# Altium footprint library USB_C-918-418K2023C40004.PcbLib: 1 footprints
Each footprint in its own frame and in the unit in brackets; x right, y up, seen from the top. Pads: shape width x height; smd on the part's side, far side on the other; paste and mask are expansions set on the pad; w line width, h text height; cw(c..) or ccw(c..) is an arc to the next point about the centre after c.
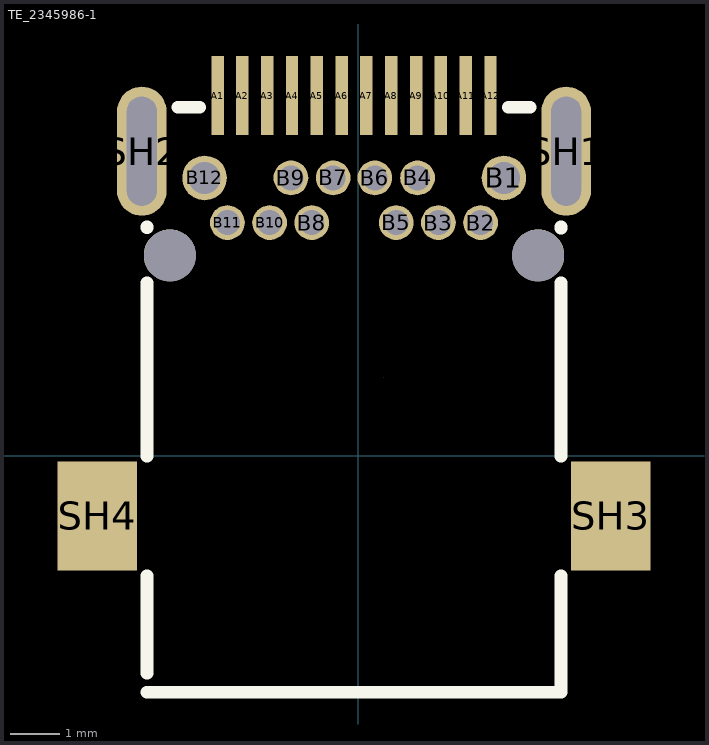
[diagram p0: the footprint, top view; thin cyan lines are the x and y axes]

## TE_2345986-1 [mm]
height 3.16
pads (30):
  rect 0.25x1.6 smd paste-100 mask+0.051: A1(-2.836,7.259) A2(-2.336,7.259) A3(-1.837,7.259) A4(-1.337,7.259) A5(-0.837,7.259) A6(-0.337,7.259) A7(0.163,7.259) A8(0.663,7.259) A9(1.162,7.259) A10(1.662,7.259) A11(2.162,7.259) A12(2.662,7.259)
  round 0.9 hole 0.65 paste-2539.97 mask+0.051: B1(2.932,5.599) B12(-3.098,5.599)
  round 0.7 hole 0.5 paste-2539.97 mask+0.051: B2(2.462,4.699) B3(1.612,4.699) B4(1.192,5.599) B5(0.762,4.699) B6(0.332,5.599) B7(-0.508,5.599) B8(-0.938,4.699) B9(-1.358,5.599) B10(-1.788,4.699) B11(-2.638,4.699)
  oval 1x2.6 hole 0.6 slot 2.2 at 90 deg paste-2539.97 mask+0.051: SH1(4.187,6.139) SH2(-4.363,6.139)
  rect 1.6x2.2 smd paste-100 mask+0.051: SH3(5.087,-1.211) SH4(-5.263,-1.211)
  round 1.05 hole 1.05 unplated paste-2539.97: ""(-3.798,4.039) ""(3.622,4.039)
Top Overlay:
  lines w0.254: -4.258,-4.761 4.082,-4.761 4.082,-2.415 ; -4.258,-4.382 -4.258,-2.415 ; -4.258,-0.008 -4.258,3.491 ; -4.258,4.592 -4.258,4.615 ; -3.637,7.024 -3.192,7.024 ; 3.018,7.024 3.461,7.024 ; 4.082,-0.008 4.082,3.486 ; 4.082,4.587 4.082,4.615
Top Paste:
  circle w0.28: c2.932,5.599 r0.14
  circle w0.28: c2.462,4.699 r0.14
  circle w0.28: c1.612,4.699 r0.14
  circle w0.28: c1.192,5.599 r0.14
  circle w0.28: c0.762,4.699 r0.14
  circle w0.28: c0.332,5.599 r0.14
  circle w0.28: c-0.508,5.599 r0.14
  circle w0.28: c-0.938,4.699 r0.14
  circle w0.28: c-1.358,5.599 r0.14
  circle w0.28: c-1.788,4.699 r0.14
  circle w0.28: c-2.638,4.699 r0.14
  circle w0.36: c-3.098,5.599 r0.18
  region: -4.463,-2.311 -6.063,-2.311 -6.063,-0.111 -4.463,-0.111
  region: 4.287,-0.111 5.887,-0.111 5.887,-2.311 4.287,-2.311
  region: -2.961,8.059 -2.711,8.059 -2.711,6.459 -2.961,6.459
  region: -2.461,8.059 -2.212,8.059 -2.212,6.459 -2.461,6.459
  region: -1.962,8.059 -1.712,8.059 -1.712,6.459 -1.962,6.459
  region: -1.462,8.059 -1.212,8.059 -1.212,6.459 -1.462,6.459
  region: -0.962,8.059 -0.712,8.059 -0.712,6.459 -0.962,6.459
  region: -0.462,8.059 -0.212,8.059 -0.212,6.459 -0.462,6.459
  region: 0.038,8.059 0.288,8.059 0.288,6.459 0.038,6.459
  region: 0.538,8.059 0.788,8.059 0.788,6.459 0.538,6.459
  region: 1.038,8.059 1.288,8.059 1.288,6.459 1.038,6.459
  region: 1.537,8.059 1.787,8.059 1.787,6.459 1.537,6.459
  region: 2.037,8.059 2.287,8.059 2.287,6.459 2.037,6.459
  region: 2.537,8.059 2.787,8.059 2.787,6.459 2.537,6.459
  region: -4.863,6.939 -4.863,7.038 -4.787,7.222 -4.646,7.363 -4.462,7.439 -4.264,7.439 -4.08,7.363 -3.939,7.222 -3.863,7.038 -3.863,6.939 -3.863,5.339 -3.863,5.239 -3.939,5.056 -4.08,4.915 -4.264,4.839 -4.462,4.839 -4.646,4.915 -4.787,5.056 -4.863,5.239 -4.863,5.339
  region: 3.687,6.939 3.687,7.038 3.763,7.222 3.904,7.363 4.088,7.439 4.287,7.439 4.47,7.363 4.611,7.222 4.687,7.038 4.687,6.939 4.687,5.339 4.687,5.239 4.611,5.056 4.47,4.915 4.287,4.839 4.088,4.839 3.904,4.915 3.763,5.056 3.687,5.239 3.687,5.339
Mechanical 15:
  lines w0.003: 0.512,1.586 0.513,1.585
3D body "2338792-1--3DModel-STEP-78480.STEP": height 3.16, standoff -1.19, extent -4.747,-1.27 4.493,7.83
3D body "ImageToStl.com_OBJ_NEW_PCB.step": height 22.87, standoff 0, extent 4046.56,-3075.937 4097.533,-3021.573
3D body "OBJ_NEW_PCB.stp": height 22.87, standoff 0, extent 4048.973,-3074.667 4099.946,-3020.303
3D body "OBJ_NEW_PCB.stp": height 22.87, standoff 0, extent 4043.131,-3068.063 4094.104,-3013.699
3D body "OBJ_NEW_PCB.stp": height 22.87, standoff 0, extent 4045.29,-3075.429 4096.263,-3021.065
3D body "OBJ_NEW_PCB.stp": height 22.87, standoff 0, extent 4046.306,-3077.842 4097.279,-3023.478
3D body "OBJ_NEW_PCB.stp": height 22.87, standoff 0, extent 4031.32,-3061.713 4082.293,-3007.349
3D body "ImageToStl.com_OBJ_NEW_PCB.step": height 22.87, standoff 0, extent 4046.306,-3076.445 4097.279,-3022.081
3D body "ImageToStl.com_OBJ_NEW_PCB.step": height 22.87, standoff 0, extent 4041.734,-3072 4092.707,-3017.636
3D body "ImageToStl.com_OBJ_NEW_PCB.step": height 22.87, standoff 0, extent 4041.734,-3072 4092.707,-3017.636
3D body "ImageToStl.com_OBJ_NEW_PCB.step": height 22.87, standoff 0, extent 4041.861,-3072 4092.834,-3017.636
3D body "ImageToStl.com_OBJ_NEW_PCB.step": height 22.87, standoff 0, extent 4041.734,-3071.873 4092.707,-3017.509
3D body "ImageToStl.com_OBJ_NEW_PCB.step": height 22.87, standoff 0, extent 4037.924,-3072.254 4088.897,-3017.89
3D body "ImageToStl.com_OBJ_NEW_PCB.step": height 22.87, standoff 0, extent 4021.541,-3069.841 4072.514,-3015.477
3D body "ImageToStl.com_OBJ_NEW_PCB.step": height 22.87, standoff 0, extent 4019.509,-3067.682 4070.482,-3013.318
3D body "ImageToStl.com_OBJ_NEW_PCB.step": height 22.87, standoff 0, extent 4019.509,-3067.682 4070.482,-3013.318